# Altium schematic symbol library mbed-HDK-MF-NXP.SCHLIB: 13 symbols
Pins are listed as number, name and electrical type; pins without a type are passive.

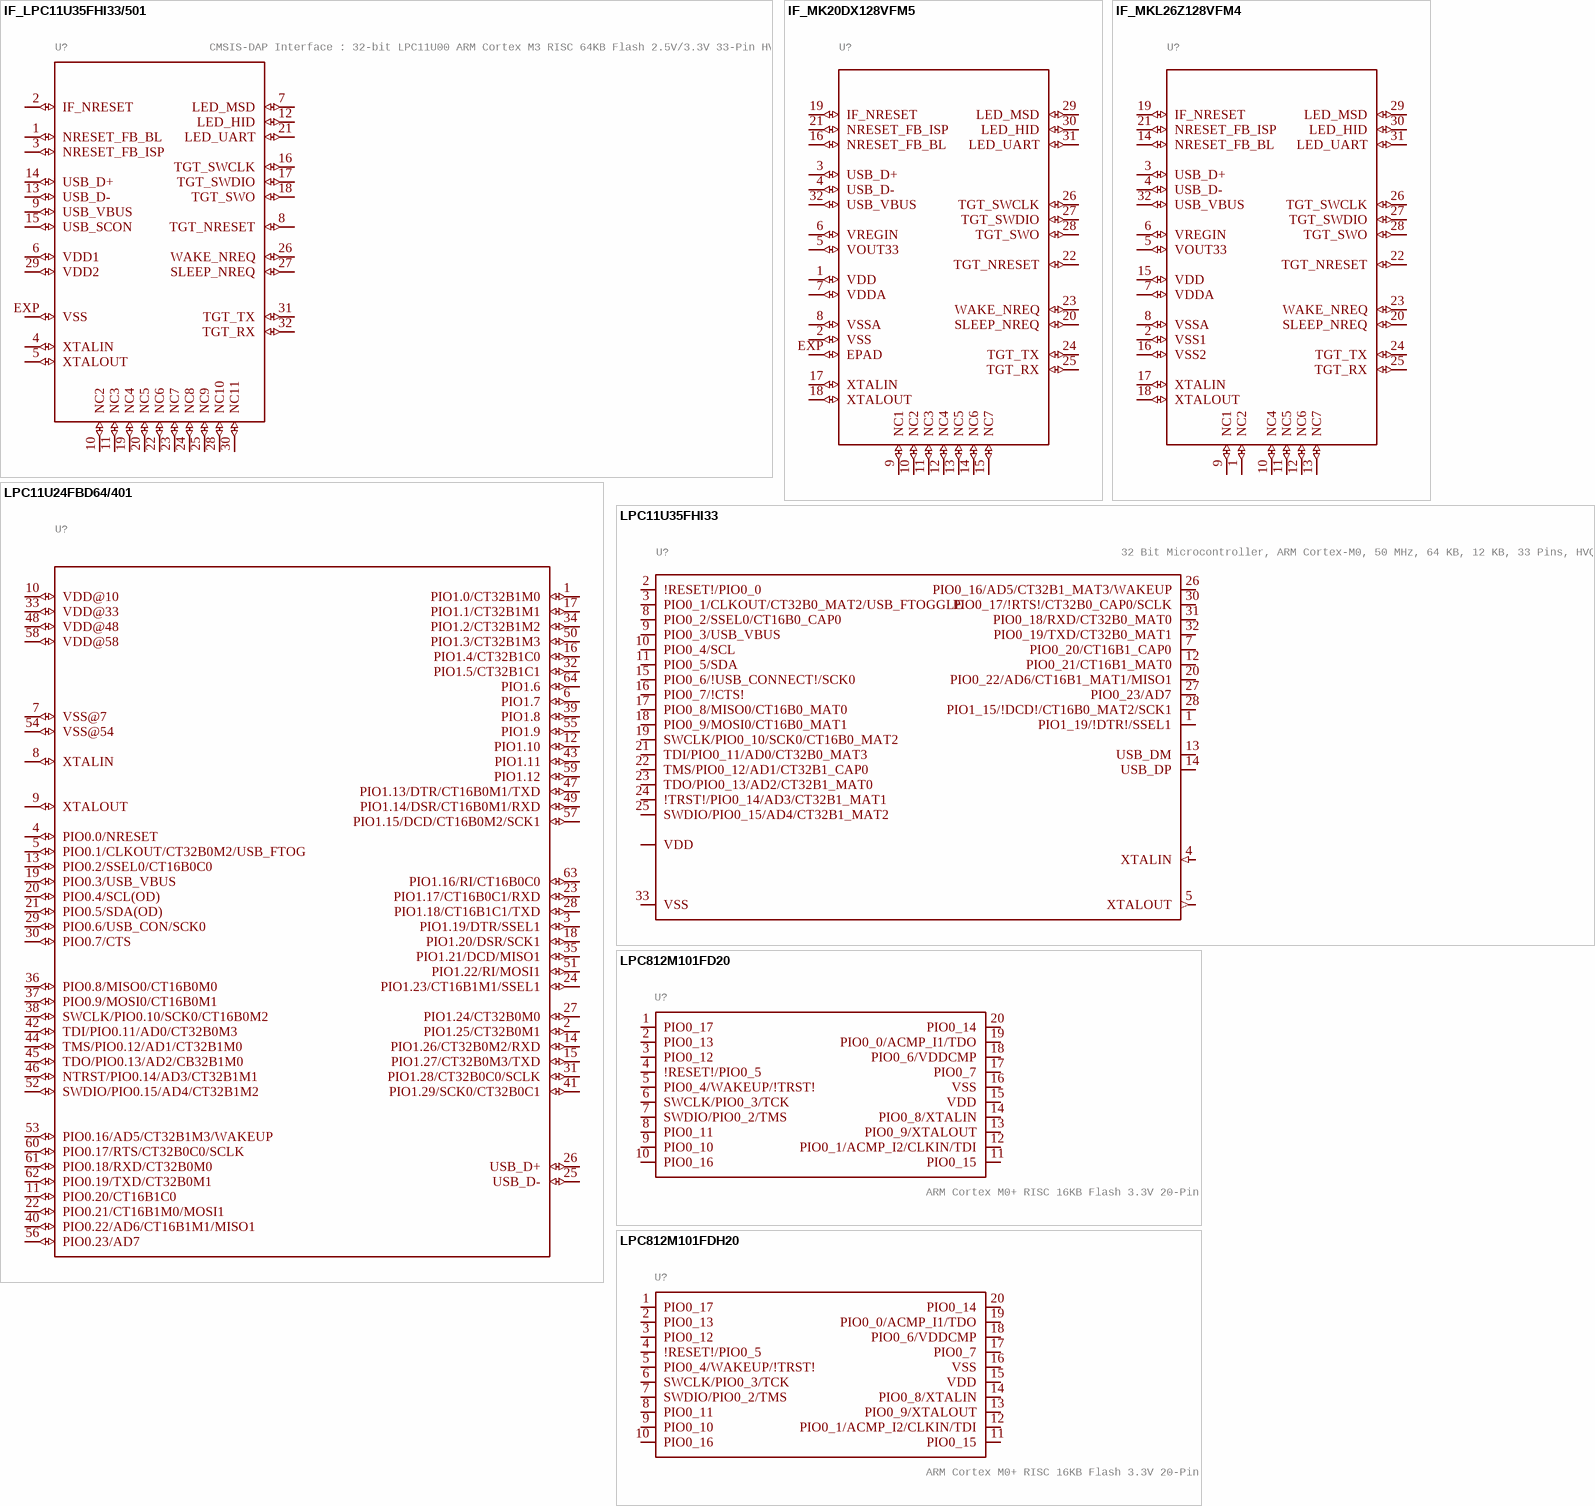
[diagram p0: symbols IF_LPC11U35FHI33/501 to LPC812M101FDH20]

## IF_LPC11U35FHI33/501
designator U?, comment CMSIS-DAP Interface : 32-bit LPC11U00 ARM Cortex M3 RISC 64KB Flash 2.5V/3.3V 33-Pin HVQFN EP
GateName_1: G$1; SymbolName_1: IF-LPC11U35; DeviceSetName: IF_LPC11U35FHI33/501; MF: NXP; MFN: LPC11U35FHI33/501; LibraryName: mbed-HDK-MF-NXP; Package: HVQFN33; OC-DIGIKEY: 568-9586-ND; OC-MOUSER: 771-LPC11U35FHI33501; OC-NEWARK: 2115658
footprint HVQFN33
pins: 1 NRESET_FB_BL (io), 2 IF_NRESET (io), 3 NRESET_FB_ISP (io), 4 XTALIN (io), 5 XTALOUT (io), 6 VDD1 (io), 7 LED_MSD (io), 8 TGT_NRESET (io), 9 USB_VBUS (io), 10 NC2 (io), 11 NC3 (io), 12 LED_HID (io), 13 USB_D- (io), 14 USB_D+ (io), 15 USB_SCON (io), 16 TGT_SWCLK (io), 17 TGT_SWDIO (io), 18 TGT_SWO (io), 19 NC4 (io), 20 NC5 (io), 21 LED_UART (io), 22 NC6 (io), 23 NC7 (io), 24 NC8 (io), 25 NC9 (io), 26 WAKE_NREQ (io), 27 SLEEP_NREQ (io), 28 NC10 (io), 29 VDD2 (io), 30 NC11 (io), 31 TGT_TX (io), 32 TGT_RX (io), EXP VSS (io)

## IF_MK20DX128VFM5
designator U?, comment CMSIS-DAP Interface : 32-bit K20 ARM Cortex M4 RISC 128KB Flash 1.8V/2.5V/3.3V 32-Pin QFN  (value not drawn)
GateName_1: G$1; SymbolName_1: MK20DX128VFM5; DeviceSetName: IF_MK20DX128VFM5; MF: NXP; LibraryName: mbed-HDK-MF-NXP; Package: HVQFN33; MFN: MK20DX128VFM5; OC-DIGIKEY: MK20DX128VFM5-ND; OC-MOUSER: 841-MK20DX128VFM5; OC-NEWARK: 2133567
footprint HVQFN33
pins: 1 VDD (io), 2 VSS (io), 3 USB_D+ (io), 4 USB_D- (io), 5 VOUT33 (io), 6 VREGIN (io), 7 VDDA (io), 8 VSSA (io), 9 NC1 (io), 10 NC2 (io), 11 NC3 (io), 12 NC4 (io), 13 NC5 (io), 14 NC6 (io), 15 NC7 (io), 16 NRESET_FB_BL (io), 17 XTALIN (io), 18 XTALOUT (io), 19 IF_NRESET (io), 20 SLEEP_NREQ (io), 21 NRESET_FB_ISP (io), 22 TGT_NRESET (io), 23 WAKE_NREQ (io), 24 TGT_TX (io), 25 TGT_RX (io), 26 TGT_SWCLK (io), 27 TGT_SWDIO (io), 28 TGT_SWO (io), 29 LED_MSD (io), 30 LED_HID (io), 31 LED_UART (io), 32 USB_VBUS (io), EXP EPAD (io)

## IF_MKL26Z128VFM4
designator U?, comment CMSIS-DAP Interface - Kinetis KL26: 48MHz Cortex-M0+ Ultra-Low Power MCU, 128KB Flash, 16KB SRAM, Full-Speed USB, 32-QFN  (value not drawn)
GateName_1: G$1; SymbolName_1: MKL26Z128VFM4; DeviceSetName: IF_MKL26Z128VFM4; MF: NXP; LibraryName: mbed-HDK-MF-NXP; Package: HVQFN32; MFN: MKL26Z128VFM4; OC-DIGIKEY: MKL26Z128VFM4-ND; OC-MOUSER: 841-MKL26Z128VFM4; OC-NEWARK: 69W2668
footprint HVQFN32
pins: 1 NC2 (io), 2 VSS1 (io), 3 USB_D+ (io), 4 USB_D- (io), 5 VOUT33 (io), 6 VREGIN (io), 7 VDDA (io), 8 VSSA (io), 9 NC1 (io), 10 NC4 (io), 11 NC5 (io), 12 NC6 (io), 13 NC7 (io), 14 NRESET_FB_BL (io), 15 VDD (io), 16 VSS2 (io), 17 XTALIN (io), 18 XTALOUT (io), 19 IF_NRESET (io), 20 SLEEP_NREQ (io), 21 NRESET_FB_ISP (io), 22 TGT_NRESET (io), 23 WAKE_NREQ (io), 24 TGT_TX (io), 25 TGT_RX (io), 26 TGT_SWCLK (io), 27 TGT_SWDIO (io), 28 TGT_SWO (io), 29 LED_MSD (io), 30 LED_HID (io), 31 LED_UART (io), 32 USB_VBUS (io)

## LPC11U24FBD64/401
designator U?, comment 32 Bit Microcontroller, ARM Cortex-M0, 50 MHz, 32 KB, 10 KB, 64 Pins, LQFP  (value not drawn)
GateName_1: G$1; SymbolName_1: LPC11U24; DeviceSetName: LPC11U24FBD64/401; MF: NXP; LibraryName: mbed-HDK-MF-NXP; Package: LQFP64; MFN: LPC11U24FBD64/401; OC-DIGIKEY: 568-12055-ND; OC-MOUSER: 771-LPC11U24FBD64401; OC-NEWARK: 74T4531
footprint LQFP64
pins: 1 PIO1.0/CT32B1M0 (io), 2 PIO1.25/CT32B0M1 (io), 3 PIO1.19/DTR/SSEL1 (io), 4 PIO0.0/NRESET (io), 5 PIO0.1/CLKOUT/CT32B0M2/USB_FTOG (io), 6 PIO1.7 (io), 7 VSS@7 (io), 8 XTALIN (io), 9 XTALOUT (io), 10 VDD@10 (io), 11 PIO0.20/CT16B1C0 (io), 12 PIO1.10 (io), 13 PIO0.2/SSEL0/CT16B0C0 (io), 14 PIO1.26/CT32B0M2/RXD (io), 15 PIO1.27/CT32B0M3/TXD (io), 16 PIO1.4/CT32B1C0 (io), 17 PIO1.1/CT32B1M1 (io), 18 PIO1.20/DSR/SCK1 (io), 19 PIO0.3/USB_VBUS (io), 20 PIO0.4/SCL(OD) (io), 21 PIO0.5/SDA(OD) (io), 22 PIO0.21/CT16B1M0/MOSI1 (io), 23 PIO1.17/CT16B0C1/RXD (io), 24 PIO1.23/CT16B1M1/SSEL1 (io), 25 USB_D- (io), 26 USB_D+ (io), 27 PIO1.24/CT32B0M0 (io), 28 PIO1.18/CT16B1C1/TXD (io), 29 PIO0.6/USB_CON/SCK0 (io), 30 PIO0.7/CTS (io), 31 PIO1.28/CT32B0C0/SCLK (io), 32 PIO1.5/CT32B1C1 (io), 33 VDD@33 (io), 34 PIO1.2/CT32B1M2 (io), 35 PIO1.21/DCD/MISO1 (io), 36 PIO0.8/MISO0/CT16B0M0 (io), 37 PIO0.9/MOSI0/CT16B0M1 (io), 38 SWCLK/PIO0.10/SCK0/CT16B0M2 (io), 39 PIO1.8 (io), 40 PIO0.22/AD6/CT16B1M1/MISO1 (io), 41 PIO1.29/SCK0/CT32B0C1 (io), 42 TDI/PIO0.11/AD0/CT32B0M3 (io), 43 PIO1.11 (io), 44 TMS/PIO0.12/AD1/CT32B1M0 (io), 45 TDO/PIO0.13/AD2/CB32B1M0 (io), 46 NTRST/PIO0.14/AD3/CT32B1M1 (io), 47 PIO1.13/DTR/CT16B0M1/TXD (io), 48 VDD@48 (io), 49 PIO1.14/DSR/CT16B0M1/RXD (io), 50 PIO1.3/CT32B1M3 (io), 51 PIO1.22/RI/MOSI1 (io), 52 SWDIO/PIO0.15/AD4/CT32B1M2 (io), 53 PIO0.16/AD5/CT32B1M3/WAKEUP (io), 54 VSS@54 (io), 55 PIO1.9 (io), 56 PIO0.23/AD7 (io), 57 PIO1.15/DCD/CT16B0M2/SCK1 (io), 58 VDD@58 (io), 59 PIO1.12 (io), 60 PIO0.17/RTS/CT32B0C0/SCLK (io), 61 PIO0.18/RXD/CT32B0M0 (io), 62 PIO0.19/TXD/CT32B0M1 (io), 63 PIO1.16/RI/CT16B0C0 (io), 64 PIO1.6 (io)

## LPC11U35FHI33
designator U?, comment 32 Bit Microcontroller, ARM Cortex-M0, 50 MHz, 64 KB, 12 KB, 33 Pins, HVQFN
GateName_1: G$1; SymbolName_1: LPC11U3X-HVQFN33; DeviceSetName: LPC11U35FHI33; MF: NXP; MFN: LPC11U35FHI33/501; LibraryName: mbed-HDK-MF-NXP; Package: SOT617-3; OC-DIGIKEY: 568-9586-ND; OC-MOUSER: 771-LPC11U35FHI33501; OC-NEWARK: 2115658
footprint SOT617-3
pins: 1 PIO1_19/!DTR!/SSEL1 (io), 2 !RESET!/PIO0_0 (io), 3 PIO0_1/CLKOUT/CT32B0_MAT2/USB_FTOGGLE (io), 4 XTALIN (in), 5 XTALOUT (out), 6 29 VDD, 7 PIO0_20/CT16B1_CAP0 (io), 8 PIO0_2/SSEL0/CT16B0_CAP0 (io), 9 PIO0_3/USB_VBUS (io), 10 PIO0_4/SCL (io), 11 PIO0_5/SDA (io), 12 PIO0_21/CT16B1_MAT0 (io), 13 USB_DM (io), 14 USB_DP (io), 15 PIO0_6/!USB_CONNECT!/SCK0 (io), 16 PIO0_7/!CTS! (io), 17 PIO0_8/MISO0/CT16B0_MAT0 (io), 18 PIO0_9/MOSI0/CT16B0_MAT1 (io), 19 SWCLK/PIO0_10/SCK0/CT16B0_MAT2 (io), 20 PIO0_22/AD6/CT16B1_MAT1/MISO1 (io), 21 TDI/PIO0_11/AD0/CT32B0_MAT3 (io), 22 TMS/PIO0_12/AD1/CT32B1_CAP0 (io), 23 TDO/PIO0_13/AD2/CT32B1_MAT0 (io), 24 !TRST!/PIO0_14/AD3/CT32B1_MAT1 (io), 25 SWDIO/PIO0_15/AD4/CT32B1_MAT2 (io), 26 PIO0_16/AD5/CT32B1_MAT3/WAKEUP (io), 27 PIO0_23/AD7 (io), 28 PIO1_15/!DCD!/CT16B0_MAT2/SCK1 (io), 30 PIO0_17/!RTS!/CT32B0_CAP0/SCLK (io), 31 PIO0_18/RXD/CT32B0_MAT0 (io), 32 PIO0_19/TXD/CT32B0_MAT1 (io), 33 VSS

## LPC812M101FD20
designator U?, comment ARM Cortex M0+ RISC 16KB Flash 3.3V 20-Pin
GateName_1: G$1; SymbolName_1: LPC812M101FD20-1; DeviceName: FD20; DeviceSetName: LPC812M101; MF: NXP; MFN: LPC812M101FD20; LibraryName: mbed-HDK-MF-NXP; Package: SOT163-1
footprint SOT163-1
pins: 1 PIO0_17 (io), 2 PIO0_13 (io), 3 PIO0_12 (io), 4 !RESET!/PIO0_5 (io), 5 PIO0_4/WAKEUP/!TRST! (io), 6 SWCLK/PIO0_3/TCK (io), 7 SWDIO/PIO0_2/TMS (io), 8 PIO0_11 (io), 9 PIO0_10 (io), 10 PIO0_16 (io), 11 PIO0_15 (io), 12 PIO0_1/ACMP_I2/CLKIN/TDI (io), 13 PIO0_9/XTALOUT (io), 14 PIO0_8/XTALIN (io), 15 VDD (power), 16 VSS (power), 17 PIO0_7 (io), 18 PIO0_6/VDDCMP (io), 19 PIO0_0/ACMP_I1/TDO (io), 20 PIO0_14 (io)

## LPC812M101FDH20
designator U?, comment ARM Cortex M0+ RISC 16KB Flash 3.3V 20-Pin
GateName_1: G$1; SymbolName_1: LPC812M101FD20-1; DeviceName: FDH20; DeviceSetName: LPC812M101; MF: NXP; MFN: LPC812M101FDH20; LibraryName: mbed-HDK-MF-NXP; Package: SOT360
footprint SOT360
pins: 1 PIO0_17 (io), 2 PIO0_13 (io), 3 PIO0_12 (io), 4 !RESET!/PIO0_5 (io), 5 PIO0_4/WAKEUP/!TRST! (io), 6 SWCLK/PIO0_3/TCK (io), 7 SWDIO/PIO0_2/TMS (io), 8 PIO0_11 (io), 9 PIO0_10 (io), 10 PIO0_16 (io), 11 PIO0_15 (io), 12 PIO0_1/ACMP_I2/CLKIN/TDI (io), 13 PIO0_9/XTALOUT (io), 14 PIO0_8/XTALIN (io), 15 VDD (power), 16 VSS (power), 17 PIO0_7 (io), 18 PIO0_6/VDDCMP (io), 19 PIO0_0/ACMP_I1/TDO (io), 20 PIO0_14 (io)

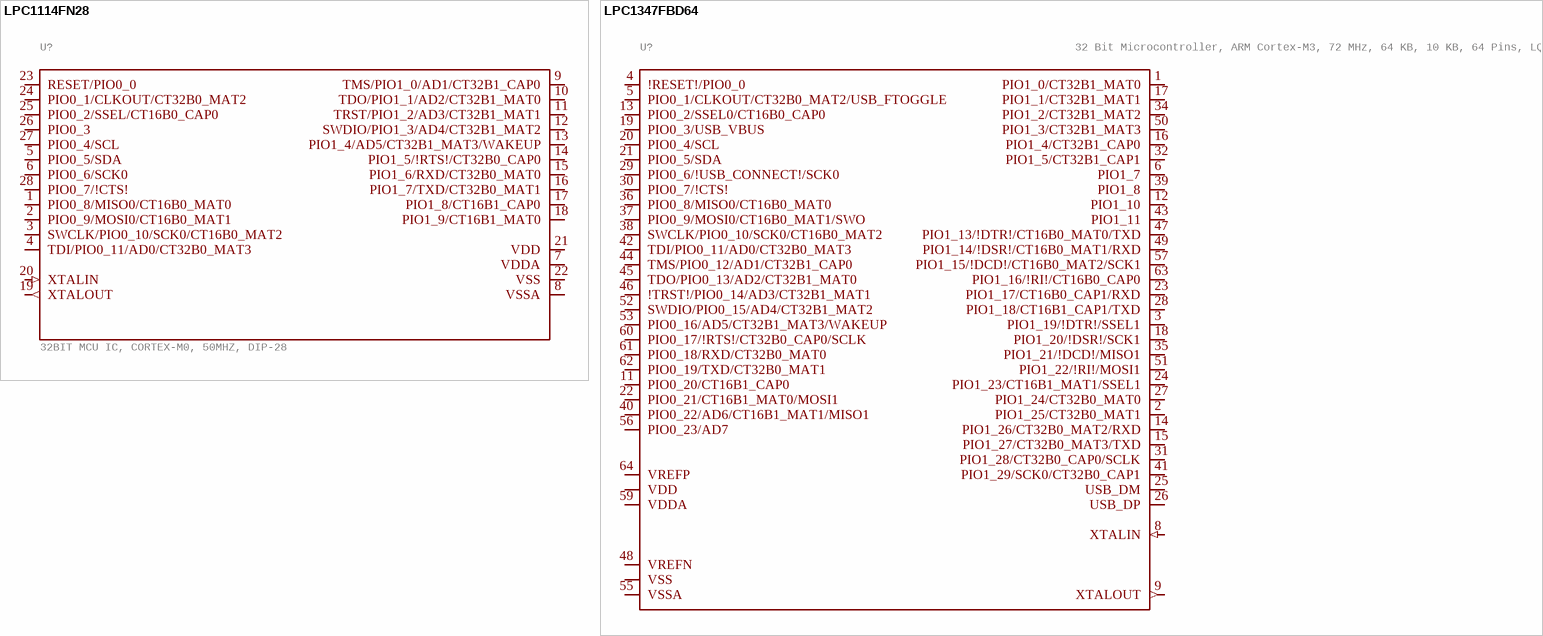
[diagram p1: symbols LPC1114FN28 to LPC1347FBD64]

## LPC1114FN28
designator U?, comment 32BIT MCU IC, CORTEX-M0, 50MHZ, DIP-28
GateName_1: G$1; SymbolName_1: LPC1112FDH28; DeviceSetName: LPC1114FN28; MF: NXP; MFN: LPC1114FN28/102; LibraryName: mbed-HDK-MF-NXP; Package: SOT117; OC-DIGIKEY: 568-10143-5-ND; OC-NEWARK: 2290161
footprint SOT117
pins: 1 PIO0_8/MISO0/CT16B0_MAT0 (io), 2 PIO0_9/MOSI0/CT16B0_MAT1 (io), 3 SWCLK/PIO0_10/SCK0/CT16B0_MAT2 (io), 4 TDI/PIO0_11/AD0/CT32B0_MAT3 (io), 5 PIO0_5/SDA (io), 6 PIO0_6/SCK0 (io), 7 VDDA (power), 8 VSSA (power), 9 TMS/PIO1_0/AD1/CT32B1_CAP0 (io), 10 TDO/PIO1_1/AD2/CT32B1_MAT0 (io), 11 TRST/PIO1_2/AD3/CT32B1_MAT1 (io), 12 SWDIO/PIO1_3/AD4/CT32B1_MAT2 (io), 13 PIO1_4/AD5/CT32B1_MAT3/WAKEUP (io), 14 PIO1_5/!RTS!/CT32B0_CAP0 (io), 15 PIO1_6/RXD/CT32B0_MAT0 (io), 16 PIO1_7/TXD/CT32B0_MAT1 (io), 17 PIO1_8/CT16B1_CAP0 (io), 18 PIO1_9/CT16B1_MAT0 (io), 19 XTALOUT (out), 20 XTALIN (in), 21 VDD (power), 22 VSS (power), 23 RESET/PIO0_0 (io), 24 PIO0_1/CLKOUT/CT32B0_MAT2 (io), 25 PIO0_2/SSEL/CT16B0_CAP0 (io), 26 PIO0_3 (io), 27 PIO0_4/SCL (io), 28 PIO0_7/!CTS! (io)

## LPC1347FBD64
designator U?, comment 32 Bit Microcontroller, ARM Cortex-M3, 72 MHz, 64 KB, 10 KB, 64 Pins, LQFP
GateName_1: G$1; SymbolName_1: LPC1347FBD64; MF: NXP; LibraryName: mbed-HDK-MF-NXP; DeviceSetName: LPC1347FBD64; Package: SOT314-2; MFN: LPC1347FBD64; OC-DIGIKEY: 568-9597-ND; OC-MOUSER: 771-LPC1347FBD64,551; OC-NEWARK: 2103478
footprint SOT314-2
pins: 1 PIO1_0/CT32B1_MAT0 (io), 2 PIO1_25/CT32B0_MAT1 (io), 3 PIO1_19/!DTR!/SSEL1 (io), 4 !RESET!/PIO0_0 (io), 5 PIO0_1/CLKOUT/CT32B0_MAT2/USB_FTOGGLE (io), 6 PIO1_7 (io), 7 54 VSS (power), 8 XTALIN (in), 9 XTALOUT (out), 10 33 58 VDD (power), 11 PIO0_20/CT16B1_CAP0 (io), 12 PIO1_10 (io), 13 PIO0_2/SSEL0/CT16B0_CAP0 (io), 14 PIO1_26/CT32B0_MAT2/RXD (io), 15 PIO1_27/CT32B0_MAT3/TXD (io), 16 PIO1_4/CT32B1_CAP0 (io), 17 PIO1_1/CT32B1_MAT1 (io), 18 PIO1_20/!DSR!/SCK1 (io), 19 PIO0_3/USB_VBUS (io), 20 PIO0_4/SCL (io), 21 PIO0_5/SDA (io), 22 PIO0_21/CT16B1_MAT0/MOSI1 (io), 23 PIO1_17/CT16B0_CAP1/RXD (io), 24 PIO1_23/CT16B1_MAT1/SSEL1 (io), 25 USB_DM (io), 26 USB_DP (io), 27 PIO1_24/CT32B0_MAT0 (io), 28 PIO1_18/CT16B1_CAP1/TXD (io), 29 PIO0_6/!USB_CONNECT!/SCK0 (io), 30 PIO0_7/!CTS! (io), 31 PIO1_28/CT32B0_CAP0/SCLK (io), 32 PIO1_5/CT32B1_CAP1 (io), 34 PIO1_2/CT32B1_MAT2 (io), 35 PIO1_21/!DCD!/MISO1 (io), 36 PIO0_8/MISO0/CT16B0_MAT0 (io), 37 PIO0_9/MOSI0/CT16B0_MAT1/SWO (io), 38 SWCLK/PIO0_10/SCK0/CT16B0_MAT2 (io), 39 PIO1_8 (io), 40 PIO0_22/AD6/CT16B1_MAT1/MISO1 (io), 41 PIO1_29/SCK0/CT32B0_CAP1 (io), 42 TDI/PIO0_11/AD0/CT32B0_MAT3 (io), 43 PIO1_11 (io), 44 TMS/PIO0_12/AD1/CT32B1_CAP0 (io), 45 TDO/PIO0_13/AD2/CT32B1_MAT0 (io), 46 !TRST!/PIO0_14/AD3/CT32B1_MAT1 (io), 47 PIO1_13/!DTR!/CT16B0_MAT0/TXD (io), 48 VREFN (power), 49 PIO1_14/!DSR!/CT16B0_MAT1/RXD (io), 50 PIO1_3/CT32B1_MAT3 (io), 51 PIO1_22/!RI!/MOSI1 (io), 52 SWDIO/PIO0_15/AD4/CT32B1_MAT2 (io), 53 PIO0_16/AD5/CT32B1_MAT3/WAKEUP (io), 55 VSSA (power), 56 PIO0_23/AD7 (io), 57 PIO1_15/!DCD!/CT16B0_MAT2/SCK1 (io), 59 VDDA (power), 60 PIO0_17/!RTS!/CT32B0_CAP0/SCLK (io), 61 PIO0_18/RXD/CT32B0_MAT0 (io), 62 PIO0_19/TXD/CT32B0_MAT1 (io), 63 PIO1_16/!RI!/CT16B0_CAP0 (io), 64 VREFP (power)

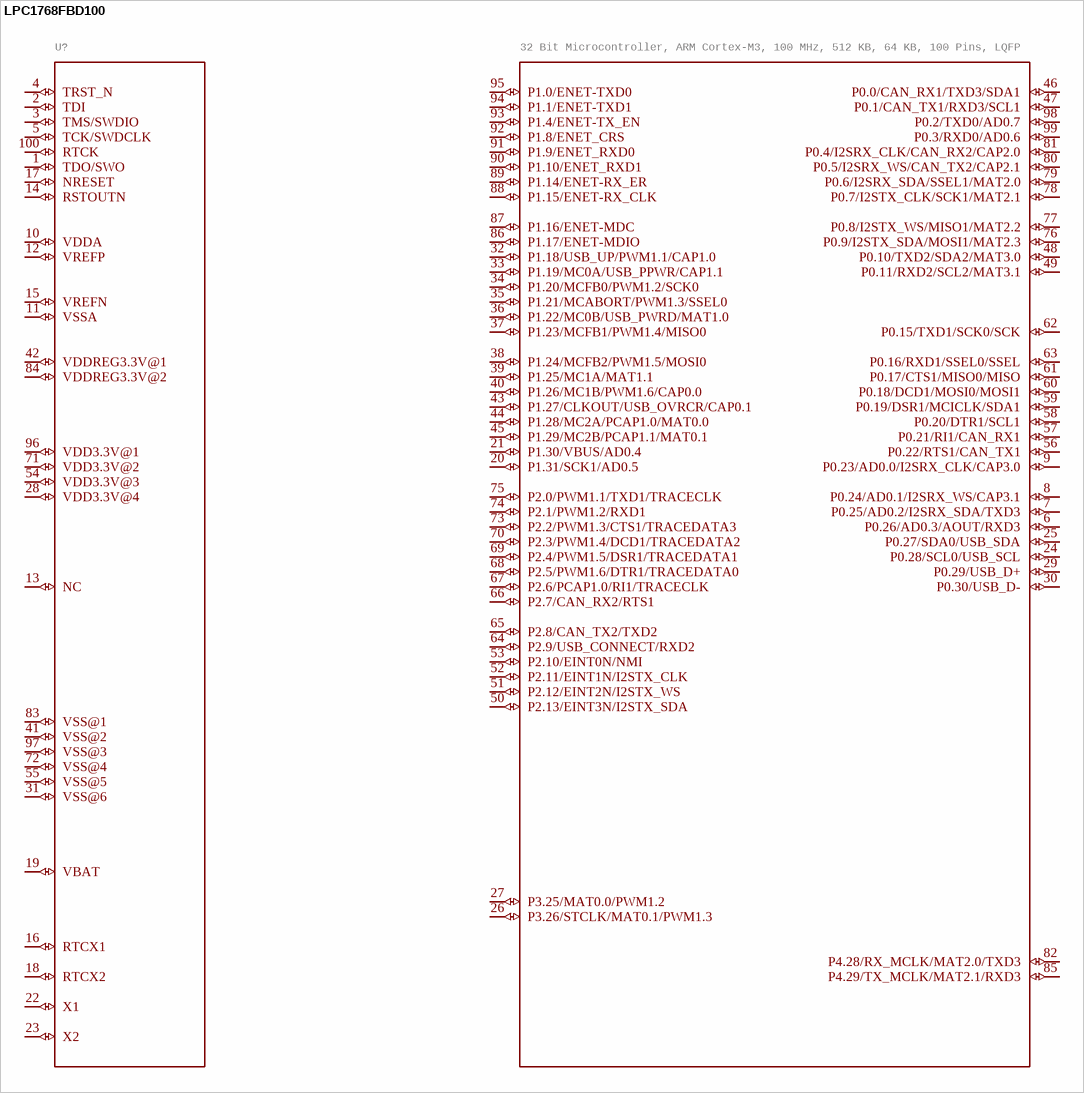
[diagram p2: symbol LPC1768FBD100]

## LPC1768FBD100
designator U?, comment 32 Bit Microcontroller, ARM Cortex-M3, 100 MHz, 512 KB, 64 KB, 100 Pins, LQFP
GateName_1: G$1; SymbolName_1: LPC1768; DeviceSetName: LPC1768FBD100; MF: NXP; LibraryName: mbed-HDK-MF-NXP; Package: LQFP100; MFN: LPC1768FBD100; OC-DIGIKEY: 568-4796-ND; OC-MOUSER: 771-LPC1768FBD100551; OC-NEWARK: 15R1840
footprint LQFP100
pins: 1 TDO/SWO (io), 2 TDI (io), 3 TMS/SWDIO (io), 4 TRST_N (io), 5 TCK/SWDCLK (io), 6 P0.26/AD0.3/AOUT/RXD3 (io), 7 P0.25/AD0.2/I2SRX_SDA/TXD3 (io), 8 P0.24/AD0.1/I2SRX_WS/CAP3.1 (io), 9 P0.23/AD0.0/I2SRX_CLK/CAP3.0 (io), 10 VDDA (io), 11 VSSA (io), 12 VREFP (io), 13 NC (io), 14 RSTOUTN (io), 15 VREFN (io), 16 RTCX1 (io), 17 NRESET (io), 18 RTCX2 (io), 19 VBAT (io), 20 P1.31/SCK1/AD0.5 (io), 21 P1.30/VBUS/AD0.4 (io), 22 X1 (io), 23 X2 (io), 24 P0.28/SCL0/USB_SCL (io), 25 P0.27/SDA0/USB_SDA (io), 26 P3.26/STCLK/MAT0.1/PWM1.3 (io), 27 P3.25/MAT0.0/PWM1.2 (io), 28 VDD3.3V@4 (io), 29 P0.29/USB_D+ (io), 30 P0.30/USB_D- (io), 31 VSS@6 (io), 32 P1.18/USB_UP/PWM1.1/CAP1.0 (io), 33 P1.19/MC0A/USB_PPWR/CAP1.1 (io), 34 P1.20/MCFB0/PWM1.2/SCK0 (io), 35 P1.21/MCABORT/PWM1.3/SSEL0 (io), 36 P1.22/MC0B/USB_PWRD/MAT1.0 (io), 37 P1.23/MCFB1/PWM1.4/MISO0 (io), 38 P1.24/MCFB2/PWM1.5/MOSI0 (io), 39 P1.25/MC1A/MAT1.1 (io), 40 P1.26/MC1B/PWM1.6/CAP0.0 (io), 41 VSS@2 (io), 42 VDDREG3.3V@1 (io), 43 P1.27/CLKOUT/USB_OVRCR/CAP0.1 (io), 44 P1.28/MC2A/PCAP1.0/MAT0.0 (io), 45 P1.29/MC2B/PCAP1.1/MAT0.1 (io), 46 P0.0/CAN_RX1/TXD3/SDA1 (io), 47 P0.1/CAN_TX1/RXD3/SCL1 (io), 48 P0.10/TXD2/SDA2/MAT3.0 (io), 49 P0.11/RXD2/SCL2/MAT3.1 (io), 50 P2.13/EINT3N/I2STX_SDA (io), 51 P2.12/EINT2N/I2STX_WS (io), 52 P2.11/EINT1N/I2STX_CLK (io), 53 P2.10/EINT0N/NMI (io), 54 VDD3.3V@3 (io), 55 VSS@5 (io), 56 P0.22/RTS1/CAN_TX1 (io), 57 P0.21/RI1/CAN_RX1 (io), 58 P0.20/DTR1/SCL1 (io), 59 P0.19/DSR1/MCICLK/SDA1 (io), 60 P0.18/DCD1/MOSI0/MOSI1 (io), 61 P0.17/CTS1/MISO0/MISO (io), 62 P0.15/TXD1/SCK0/SCK (io), 63 P0.16/RXD1/SSEL0/SSEL (io), 64 P2.9/USB_CONNECT/RXD2 (io), 65 P2.8/CAN_TX2/TXD2 (io), 66 P2.7/CAN_RX2/RTS1 (io), 67 P2.6/PCAP1.0/RI1/TRACECLK (io), 68 P2.5/PWM1.6/DTR1/TRACEDATA0 (io), 69 P2.4/PWM1.5/DSR1/TRACEDATA1 (io), 70 P2.3/PWM1.4/DCD1/TRACEDATA2 (io), 71 VDD3.3V@2 (io), 72 VSS@4 (io), 73 P2.2/PWM1.3/CTS1/TRACEDATA3 (io), 74 P2.1/PWM1.2/RXD1 (io), 75 P2.0/PWM1.1/TXD1/TRACECLK (io), 76 P0.9/I2STX_SDA/MOSI1/MAT2.3 (io), 77 P0.8/I2STX_WS/MISO1/MAT2.2 (io), 78 P0.7/I2STX_CLK/SCK1/MAT2.1 (io), 79 P0.6/I2SRX_SDA/SSEL1/MAT2.0 (io), 80 P0.5/I2SRX_WS/CAN_TX2/CAP2.1 (io), 81 P0.4/I2SRX_CLK/CAN_RX2/CAP2.0 (io), 82 P4.28/RX_MCLK/MAT2.0/TXD3 (io), 83 VSS@1 (io), 84 VDDREG3.3V@2 (io), 85 P4.29/TX_MCLK/MAT2.1/RXD3 (io), 86 P1.17/ENET-MDIO (io), 87 P1.16/ENET-MDC (io), 88 P1.15/ENET-RX_CLK (io), 89 P1.14/ENET-RX_ER (io), 90 P1.10/ENET_RXD1 (io), 91 P1.9/ENET_RXD0 (io), 92 P1.8/ENET_CRS (io), 93 P1.4/ENET-TX_EN (io), 94 P1.1/ENET-TXD1 (io), 95 P1.0/ENET-TXD0 (io), 96 VDD3.3V@1 (io), 97 VSS@3 (io), 98 P0.2/TXD0/AD0.7 (io), 99 P0.3/RXD0/AD0.6 (io), 100 RTCK (io)

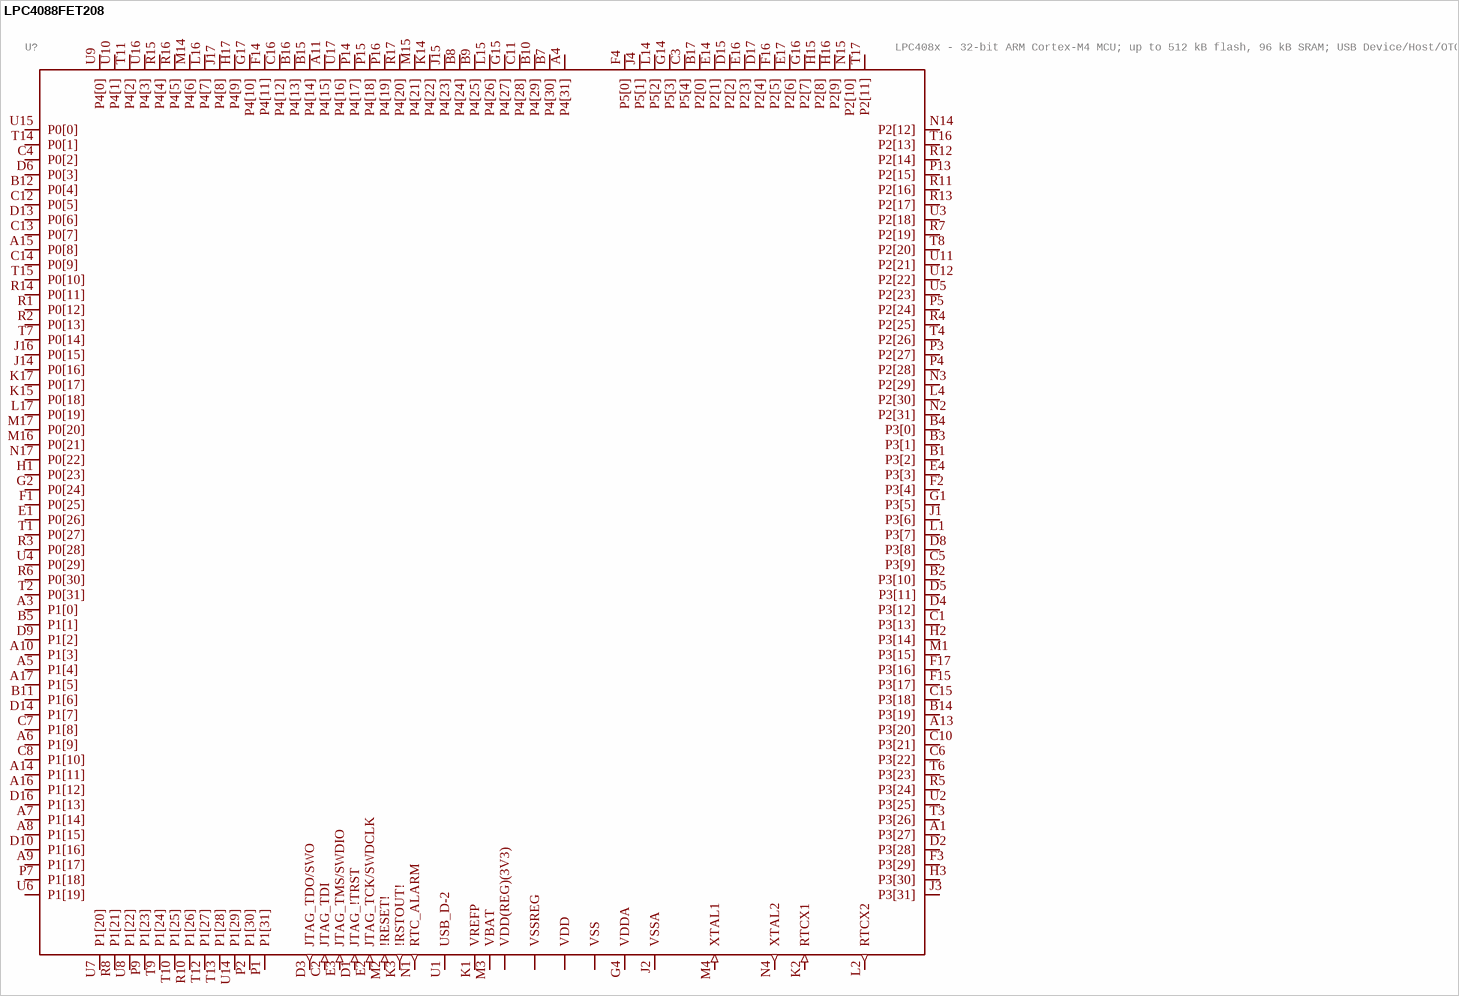
[diagram p3: symbol LPC4088FET208]

## LPC4088FET208
designator U?, comment LPC408x - 32-bit ARM Cortex-M4 MCU; up to 512 kB flash, 96 kB SRAM; USB Device/Host/OTG; Ethernet; LCD; EMC; SPIFI
GateName_1: G$1; SymbolName_1: LPC40X8FYY208; DeviceSetName: LPC4088FET208; MF: NXP; MFN: LPC4088FET208,551; LibraryName: mbed-HDK-MF-NXP; Package: SOT950-1; OC-DIGIKEY: 568-9832-ND; OC-MOUSER: 771-LPC4088FET208551; OC-NEWARK: 2285015
footprint SOT950-1
pins: A1 P3[27] (io), A2 A12 B6 E15 H14 L3 N16 P12 R9 T5 VSS (power), A3 P1[0] (io), A4 P4[31] (io), A5 P1[4] (io), A6 P1[9] (io), A7 P1[14] (io), A8 P1[15] (io), A9 P1[17] (io), A10 P1[3] (io), A11 P4[15] (io), A13 P3[20] (io), A14 P1[11] (io), A15 P0[8] (io), A16 P1[12] (io), A17 P1[5] (io), B1 P3[2] (io), B2 P3[10] (io), B3 P3[1] (io), B4 P3[0] (io), B5 P1[1] (io), B7 P4[30] (io), B8 P4[24] (io), B9 P4[25] (io), B10 P4[29] (io), B11 P1[6] (io), B12 P0[4] (io), B13 C9 C17 D7 G3 K16 P6 P8 P17 U13 VDD (power), B14 P3[19] (io), B15 P4[14] (io), B16 P4[13] (io), B17 P2[0] (io), C1 P3[13] (io), C2 JTAG_TDI (in), C3 P5[4] (io), C4 P0[2] (io), C5 P3[9] (io), C6 P3[22] (io), C7 P1[8] (io), C8 P1[10] (io), C10 P3[21] (io), C11 P4[28] (io), C12 P0[5] (io), C13 P0[7] (io), C14 P0[9] (io), C15 P3[18] (io), C16 P4[12] (io), D1 JTAG_!TRST (in), D2 P3[28] (io), D3 JTAG_TDO/SWO (out), D4 P3[12] (io), D5 P3[11] (io), D6 P0[3] (io), D8 P3[8] (io), D9 P1[2] (io), D10 P1[16] (io), D11 H4 P11 VDD(REG)(3V3) (power), D12 K4 P10 VSSREG (power), D13 P0[6] (io), D14 P1[7] (io), D15 P2[2] (io), D16 P1[13] (io), D17 P2[4] (io), E1 P0[26] (io), E2 JTAG_TCK/SWDCLK (in), E3 JTAG_TMS/SWDIO (in), E4 P3[3] (io), E14 P2[1] (io), E16 P2[3] (io), E17 P2[6] (io), F1 P0[25] (io), F2 P3[4] (io), F3 P3[29] (io), F4 P5[0] (io), F14 P4[11] (io), F15 P3[17] (io), F16 P2[5] (io), F17 P3[16] (io), G1 P3[5] (io), G2 P0[24] (io), G4 VDDA (power), G14 P5[3] (io), G15 P4[27] (io), G16 P2[7] (io), G17 P4[10] (io), H1 P0[23] (io), H2 P3[14] (io), H3 P3[30] (io), H15 P2[8] (io), H16 P2[9] (io), H17 P4[9] (io), J1 P3[6] (io), J2 VSSA (power), J3 P3[31] (io), J4 P5[1] (io), J14 P0[16] (io), J15 P4[23] (io), J16 P0[15] (io), J17 P4[8] (io), K1 VREFP (power), K2 RTCX1 (in), K3 !RSTOUT! (out), K14 P4[22] (io), K15 P0[18] (io), K17 P0[17] (io), L1 P3[7] (io), L2 RTCX2 (out), L4 P2[30] (io), L14 P5[2] (io), L15 P4[26] (io), L16 P4[7] (io), L17 P0[19] (io), M1 P3[15] (io), M2 !RESET! (in), M3 VBAT (power), M4 XTAL1 (in), M14 P4[6] (io), M15 P4[21] (io), M16 P0[21] (io), M17 P0[20] (io), N1 RTC_ALARM (out), N2 P2[31] (io), N3 P2[29] (io), N4 XTAL2 (out), N14 P2[12] (io), N15 P2[10] (io), N17 P0[22] (io), P1 P1[31] (io), P2 P1[30] (io), P3 P2[27] (io), P4 P2[28] (io), P5 P2[24] (io), P7 P1[18] (io), P9 P1[23] (io), P13 P2[15] (io), P14 P4[17] (io), P15 P4[18] (io), P16 P4[19] (io), R1 P0[12] (io), R2 P0[13] (io), R3 P0[28] (io), R4 P2[25] (io), R5 P3[24] (io), R6 P0[30] (io), R7 P2[19] (io), R8 P1[21] (io), R10 P1[26] (io), R11 P2[16] (io), R12 P2[14] (io), R13 P2[17] (io), R14 P0[11] (io), R15 P4[4] (io), R16 P4[5] (io), R17 P4[20] (io), T1 P0[27] (io), T2 P0[31] (io), T3 P3[26] (io), T4 P2[26] (io), T6 P3[23] (io), T7 P0[14] (io), T8 P2[20] (io), T9 P1[24] (io), T10 P1[25] (io), T11 P4[2] (io), T12 P1[27] (io), T13 P1[28] (io), T14 P0[1] (io), T15 P0[10] (io), T16 P2[13] (io), T17 P2[11] (io), U1 USB_D-2 (io), U2 P3[25] (io), U3 P2[18] (io), U4 P0[29] (io), U5 P2[23] (io), U6 P1[19] (io), U7 P1[20] (io), U8 P1[22] (io), U9 P4[0] (io), U10 P4[1] (io), U11 P2[21] (io), U12 P2[22] (io), U14 P1[29] (io), U15 P0[0] (io), U16 P4[3] (io), U17 P4[16] (io)

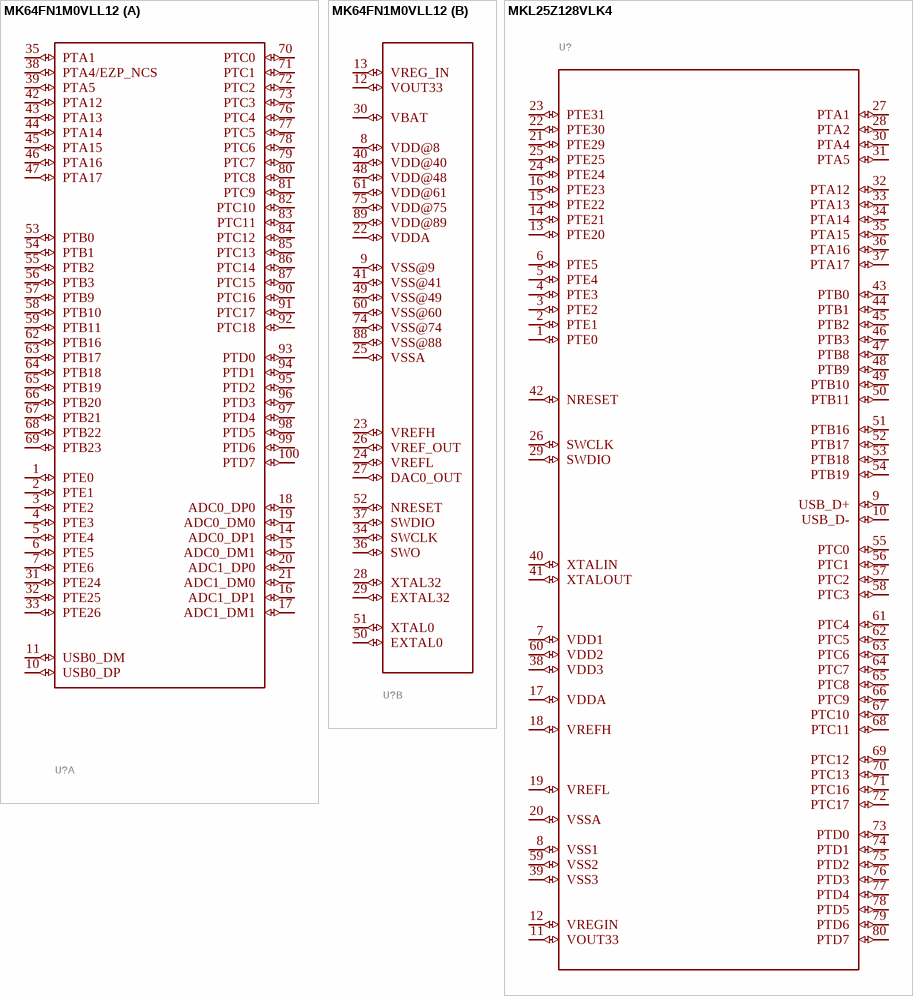
[diagram p4: symbols MK64FN1M0VLL12 to MKL25Z128VLK4]

## MK64FN1M0VLL12
designator U?, comment Kinetis K64: 120MHz Cortex-M4F MCU, 1MB Flash, 256KB SRAM, Full-Speed USB, Ethernet, 100-LQFP  (value not drawn)
GateName_1: IO; SymbolName_1: MK64FN1M0VLL12-IO; GateName_2: SYSTEM; SymbolName_2: MK64FN1M0VLL12-SYSTEM; DeviceSetName: MK64FN1M0VLL12; MF: NXP; LibraryName: mbed-HDK-MF-NXP; Package: LQFP100; MFN: MK64FN1M0VLL12; OC-DIGIKEY: MK64FN1M0VLL12-ND; OC-MOUSER: 841-MK64FN1M0VLL12; OC-NEWARK: 2396526
footprint LQFP100
part A pins: 1 PTE0 (io), 2 PTE1 (io), 3 PTE2 (io), 4 PTE3 (io), 5 PTE4 (io), 6 PTE5 (io), 7 PTE6 (io), 10 USB0_DP (io), 11 USB0_DM (io), 14 ADC0_DP1 (io), 15 ADC0_DM1 (io), 16 ADC1_DP1 (io), 17 ADC1_DM1 (io), 18 ADC0_DP0 (io), 19 ADC0_DM0 (io), 20 ADC1_DP0 (io), 21 ADC1_DM0 (io), 31 PTE24 (io), 32 PTE25 (io), 33 PTE26 (io), 35 PTA1 (io), 38 PTA4/EZP_NCS (io), 39 PTA5 (io), 42 PTA12 (io), 43 PTA13 (io), 44 PTA14 (io), 45 PTA15 (io), 46 PTA16 (io), 47 PTA17 (io), 53 PTB0 (io), 54 PTB1 (io), 55 PTB2 (io), 56 PTB3 (io), 57 PTB9 (io), 58 PTB10 (io), 59 PTB11 (io), 62 PTB16 (io), 63 PTB17 (io), 64 PTB18 (io), 65 PTB19 (io), 66 PTB20 (io), 67 PTB21 (io), 68 PTB22 (io), 69 PTB23 (io), 70 PTC0 (io), 71 PTC1 (io), 72 PTC2 (io), 73 PTC3 (io), 76 PTC4 (io), 77 PTC5 (io), 78 PTC6 (io), 79 PTC7 (io), 80 PTC8 (io), 81 PTC9 (io), 82 PTC10 (io), 83 PTC11 (io), 84 PTC12 (io), 85 PTC13 (io), 86 PTC14 (io), 87 PTC15 (io), 90 PTC16 (io), 91 PTC17 (io), 92 PTC18 (io), 93 PTD0 (io), 94 PTD1 (io), 95 PTD2 (io), 96 PTD3 (io), 97 PTD4 (io), 98 PTD5 (io), 99 PTD6 (io), 100 PTD7 (io)
part B pins: 8 VDD@8 (io), 9 VSS@9 (io), 12 VOUT33 (io), 13 VREG_IN (io), 22 VDDA (io), 23 VREFH (io), 24 VREFL (io), 25 VSSA (io), 26 VREF_OUT (io), 27 DAC0_OUT (io), 28 XTAL32 (io), 29 EXTAL32 (io), 30 VBAT (io), 34 SWCLK (io), 36 SWO (io), 37 SWDIO (io), 40 VDD@40 (io), 41 VSS@41 (io), 48 VDD@48 (io), 49 VSS@49 (io), 50 EXTAL0 (io), 51 XTAL0 (io), 52 NRESET (io), 60 VSS@60 (io), 61 VDD@61 (io), 74 VSS@74 (io), 75 VDD@75 (io), 88 VSS@88 (io), 89 VDD@89 (io)

## MKL25Z128VLK4
designator U?, comment Kinetis KL25: 48MHz Cortex-M0+ Ultra-Low Power MCU, 128KB Flash, 16KB SRAM, Full-Speed USB, 80-LQFP  (value not drawn)
GateName_1: G$1; SymbolName_1: MKL25Z128VLK4; MF: NXP; LibraryName: mbed-HDK-MF-NXP; DeviceSetName: MKL25Z128VLK4; Package: LQFP80; MFN: MKL25Z128VLK4; OC-DIGIKEY: MKL25Z128VLK4-ND; OC-MOUSER: 841-MKL25Z128VLK4; OC-NEWARK: 44W0180
footprint LQFP80
pins: 1 PTE0 (io), 2 PTE1 (io), 3 PTE2 (io), 4 PTE3 (io), 5 PTE4 (io), 6 PTE5 (io), 7 VDD1 (io), 8 VSS1 (io), 9 USB_D+ (io), 10 USB_D- (io), 11 VOUT33 (io), 12 VREGIN (io), 13 PTE20 (io), 14 PTE21 (io), 15 PTE22 (io), 16 PTE23 (io), 17 VDDA (io), 18 VREFH (io), 19 VREFL (io), 20 VSSA (io), 21 PTE29 (io), 22 PTE30 (io), 23 PTE31 (io), 24 PTE24 (io), 25 PTE25 (io), 26 SWCLK (io), 27 PTA1 (io), 28 PTA2 (io), 29 SWDIO (io), 30 PTA4 (io), 31 PTA5 (io), 32 PTA12 (io), 33 PTA13 (io), 34 PTA14 (io), 35 PTA15 (io), 36 PTA16 (io), 37 PTA17 (io), 38 VDD3 (io), 39 VSS3 (io), 40 XTALIN (io), 41 XTALOUT (io), 42 NRESET (io), 43 PTB0 (io), 44 PTB1 (io), 45 PTB2 (io), 46 PTB3 (io), 47 PTB8 (io), 48 PTB9 (io), 49 PTB10 (io), 50 PTB11 (io), 51 PTB16 (io), 52 PTB17 (io), 53 PTB18 (io), 54 PTB19 (io), 55 PTC0 (io), 56 PTC1 (io), 57 PTC2 (io), 58 PTC3 (io), 59 VSS2 (io), 60 VDD2 (io), 61 PTC4 (io), 62 PTC5 (io), 63 PTC6 (io), 64 PTC7 (io), 65 PTC8 (io), 66 PTC9 (io), 67 PTC10 (io), 68 PTC11 (io), 69 PTC12 (io), 70 PTC13 (io), 71 PTC16 (io), 72 PTC17 (io), 73 PTD0 (io), 74 PTD1 (io), 75 PTD2 (io), 76 PTD3 (io), 77 PTD4 (io), 78 PTD5 (io), 79 PTD6 (io), 80 PTD7 (io)